# EAGLE library part RFM22 (library SparkFun)
*Hope RF's RFM22* Packages: RFM22-S2 (SMD)
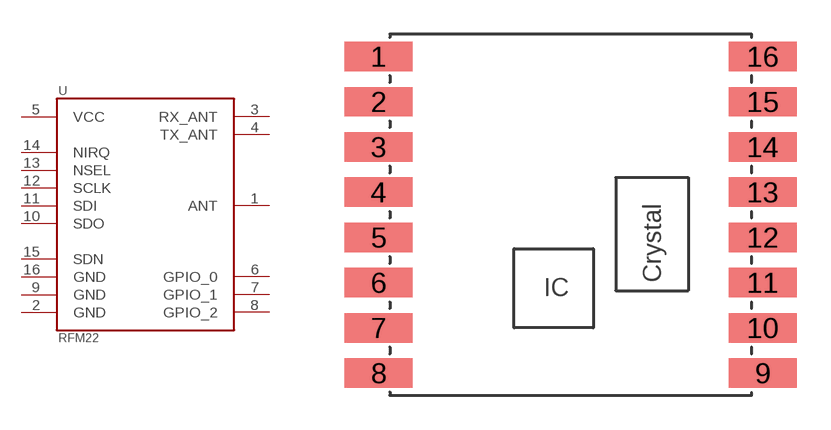
[diagram p279: symbol with the pads of RFM22-XXX-S2; footprint RFM22-XXX-S2]

Designator prefix -

## RFM22  [RFM22-XXX-S2]
1  ANT
2  GND  pwr
3  RX_ANT  in
4  TX_ANT  in
5  VCC
6  GPIO_0
7  GPIO_1
8  GPIO_2
9  GND  pwr
10  SDO  out
11  SDI  in
12  SCLK  in
13  NSEL  in
14  NIRQ  out
15  SDN  in
16  GND  pwr

## Footprint RFM22-XXX-S2 (pad centres in mm)
Package for Hope RF's RFM22-xxx-S2 SMD wireless transciever, xxx is module's frequency band.
smd 3 x 1.3: 1 -8.5,7; 2 -8.5,5; 3 -8.5,3; 4 -8.5,1; 5 -8.5,-1; 6 -8.5,-3; 7 -8.5,-5; 8 -8.5,-7; 9 8.5,-7; 10 8.5,-5; 11 8.5,-3; 12 8.5,-1; 13 8.5,1; 14 8.5,3; 15 8.5,5; 16 8.5,7